# Altium integrated library SMF05C.TCT.IntLib: 1 symbol
Pins are listed as number, name and electrical type; pins without a type are passive.

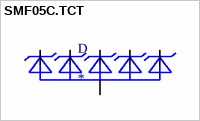
[diagram p0: symbol SMF05C.TCT]

## SMF05C.TCT
designator D
12.5V Clamp 8A _8/20Âµs_ Ipp Tvs Diode Surface Mount SC-70-6; MP: SMF05C.TCT; MF: Semtech; Price: None; Value: *; Package: SOT-363 Diodes Inc.; SnapEDA_Link: https://www.snapeda.com/parts/SMF05C.TCT/Semtech%20Corporation/view-part/1264306/?ref=snap; Availability: Unavailable
footprint SC70-6
pins: 1 C1, 2 A, 3 C2, 4 C3, 5 C4, 6 C5